# Altium schematic symbol library Schlib_Power.SchLib: 25 symbols
Pins are listed as number, name and electrical type; pins without a type are passive.

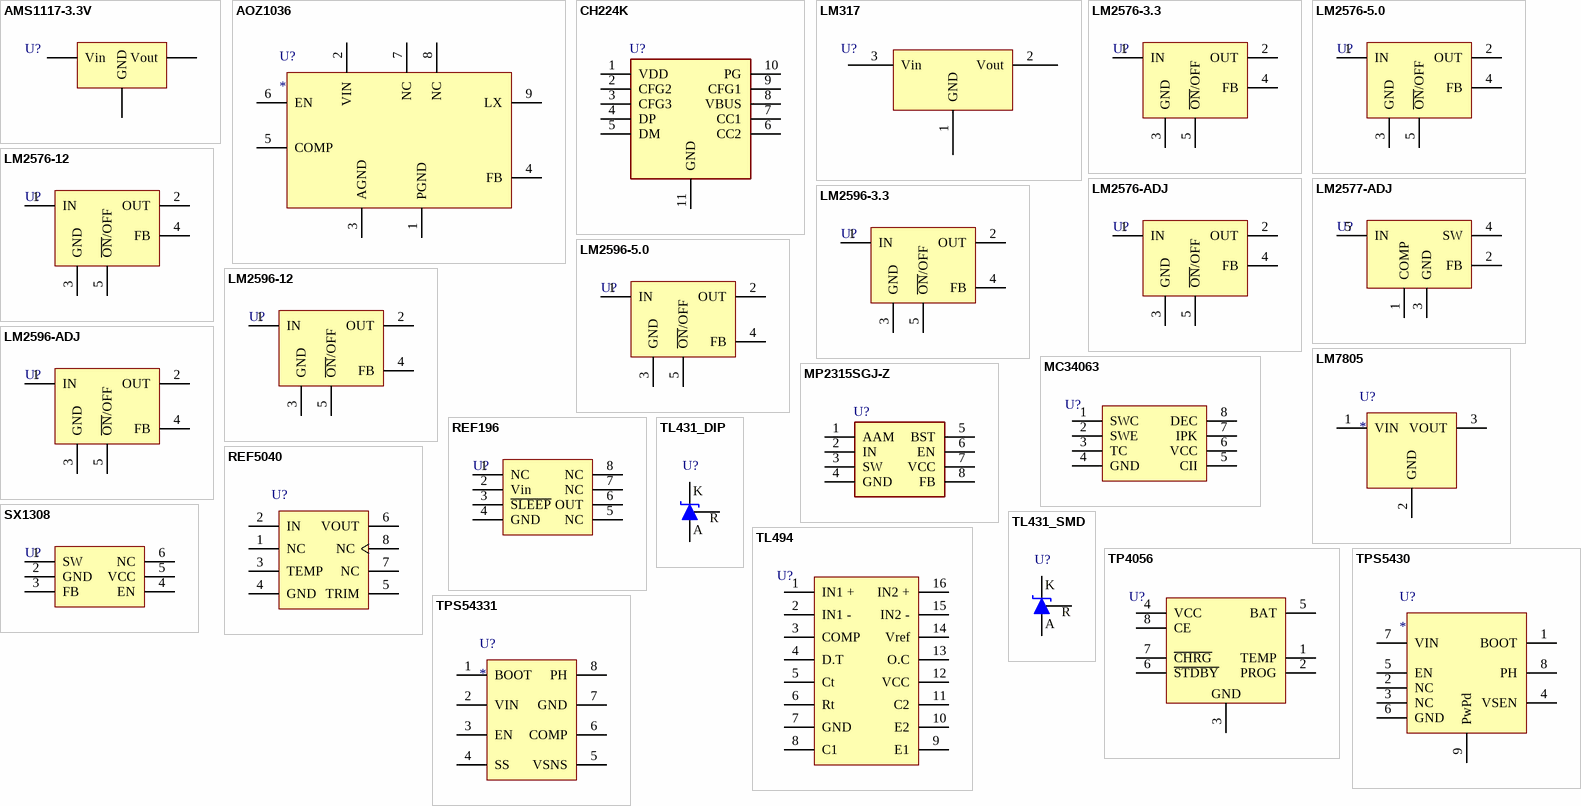
[diagram p0: symbols AMS1117-3.3V to TPS54331]

## AMS1117-3.3V
designator U?
low dropout three-terminal regulators
footprint SOT-223 (Footprint not found)
pins: 1 GND, 2 Vout, 3 Vin

## AOZ1036
designator U?
footprint SOP8-Pad
pins: 1 PGND, 2 VIN, 3 AGND, 4 FB, 5 COMP, 6 EN, 7 NC, 8 NC, 9 LX

## CH224K
designator U?
ESSOP-10 USB ICs ROHS; Manufacturer_Name: WCH; Manufacturer_Part_Number: CH224K; Geometry.Height: 1.8mm; Mouser Part Number: *; Mouser Price/Stock: *; Arrow Part Number: *; Arrow Price/Stock: *; Datasheet Link: https://datasheet.lcsc.com/lcsc/2204251615_WCH-Jiangsu-Qin-Heng-CH224K_C970725.pdf
footprint SOP-10-EP (SOP-8 (Exposed Pad))
pins: 1 VDD, 2 CFG2, 3 CFG3, 4 DP, 5 DM, 6 CC2, 7 CC1, 8 VBUS, 9 CFG1, 10 PG, 11 GND

## LM317
designator U?
footprint TO263
pins: 1 GND, 2 Vout, 3 Vin

## LM2576-3.3
designator U?
DC降压芯片
footprint TO263-5A (263，5脚晶体管)
footprint TO220-5A
pins: 1 IN (power), 2 OUT (power), 3 GND (power), 4 FB, 5 ~{ON}/OFF

## LM2576-5.0
designator U?
DC降压芯片
footprint TO220-5A
footprint TO263-5A (263，5脚晶体管)
pins: 1 IN (power), 2 OUT (power), 3 GND (power), 4 FB, 5 ~{ON}/OFF

## LM2576-12
designator U?
DC降压芯片
footprint TO220-5A
footprint TO263-5A (263，5脚晶体管)
pins: 1 IN (power), 2 OUT (power), 3 GND (power), 4 FB, 5 ~{ON}/OFF

## LM2576-ADJ
designator U?
DC降压芯片
footprint TO220-5A
footprint TO263-5A (263，5脚晶体管)
pins: 1 IN (power), 2 OUT (power), 3 GND (power), 4 FB, 5 ~{ON}/OFF

## LM2577-ADJ
designator U?
DC升压芯片
footprint TO263-5A (263，5脚晶体管)
pins: 1 COMP, 2 FB, 3 GND, 4 SW (power), 5 IN (power)

## LM2596-3.3
designator U?
DC降压芯片
footprint TO263-5A (263，5脚晶体管)
pins: 1 IN (power), 2 OUT (power), 3 GND (power), 4 FB, 5 ~{ON}/OFF

## LM2596-5.0
designator U?
DC降压芯片
footprint TO263-5A (263，5脚晶体管)
pins: 1 IN (power), 2 OUT (power), 3 GND (power), 4 FB, 5 ~{ON}/OFF

## LM2596-12
designator U?
DC降压芯片
footprint TO263-5A (263，5脚晶体管)
pins: 1 IN (power), 2 OUT (power), 3 GND (power), 4 FB, 5 ~{ON}/OFF

## LM2596-ADJ
designator U?
footprint TO263-5A (263，5脚晶体管)
pins: 1 IN (power), 2 OUT (power), 3 GND (power), 4 FB, 5 ~{ON}/OFF

## LM7805
designator U?
footprint TO252 (252晶体管)
pins: 1 VIN, 2 GND, 3 VOUT

## MC34063
designator U?
footprint DIP8
footprint DIP8_SS (DIP8-SMD Socket)
footprint SOP8
pins: 1 SWC, 2 SWE, 3 TC, 4 GND, 5 CII, 6 VCC, 7 IPK, 8 DEC

## MP2315SGJ-Z
designator U?
Switching Voltage Regulators 3A 24V Hi Effc.Sync Step Down Converter; Manufacturer_Name: Monolithic Power Systems (MPS); Manufacturer_Part_Number: MP2315SGJ-Z; Geometry.Height: 1mm; Mouser Part Number: 946-MP2315SGJ-Z; Mouser Price/Stock: https://www.mouser.co.uk/ProductDetail/Monolithic-Power-Systems-MPS/MP2315SGJ-Z?qs=Zwj7mHVHPHQK3n9ExaDQiw%3D%3D; Arrow Part Number: *; Arrow Price/Stock: *; Datasheet Link: https://componentsearchengine.com/Datasheets/1/MP2315SGJ-Z.pdf
footprint TSOT-23-8
pins: 1 AAM, 2 IN, 3 SW, 4 GND, 5 BST, 6 EN, 7 VCC, 8 FB

## REF196
designator U?
3V3基准电压源
footprint SOP8
pins: 1 NC, 2 Vin, 3 ~{SLEEP}, 4 GND, 5 NC, 6 OUT, 7 NC, 8 NC

## REF5040
designator U?
高精度电压基准
footprint SOP8
pins: 1 NC, 2 IN, 3 TEMP, 4 GND, 5 TRIM, 6 VOUT, 7 NC, 8 NC

## SX1308
designator U?
可调升压芯片
footprint SOT23-6
pins: 1 SW, 2 GND, 3 FB, 4 EN, 5 VCC, 6 NC

## TL431_DIP
designator U?
可调基准稳压芯片
pins: A, K, R

## TL431_SMD
designator U?
可调基准稳压芯片
footprint SOT89
pins: A, K, R

## TL494
designator U?
电源管理IC
footprint DIP16
footprint DIP16_SS (DIP16-SMD Socket)
pins: 1 IN1 +, 2 IN1 -, 3 COMP, 4 D.T, 5 Ct, 6 Rt, 7 GND, 8 C1, 9 E1, 10 E2, 11 C2, 12 VCC, 13 O.C, 14 Vref, 15 IN2 -, 16 IN2 +

## TP4056
designator U?
footprint SOP8
pins: 1 TEMP, 2 PROG, 3 GND, 4 VCC, 5 BAT, 6 ~{STDBY}, 7 ~{CHRG}, 8 CE

## TPS5430
designator U?
footprint SOP8-Pad
pins: 1 BOOT, 2 NC, 3 NC, 4 VSEN, 5 EN, 6 GND, 7 VIN, 8 PH, 9 PwPd

## TPS54331
designator U?
footprint SOP8-Pad
pins: 1 BOOT, 2 VIN, 3 EN, 4 SS, 5 VSNS, 6 COMP, 7 GND, 8 PH